# Altium schematic symbol library Standard Components.SCHLIB: 18 symbols
Pins are listed as number, name and electrical type; pins without a type are passive.

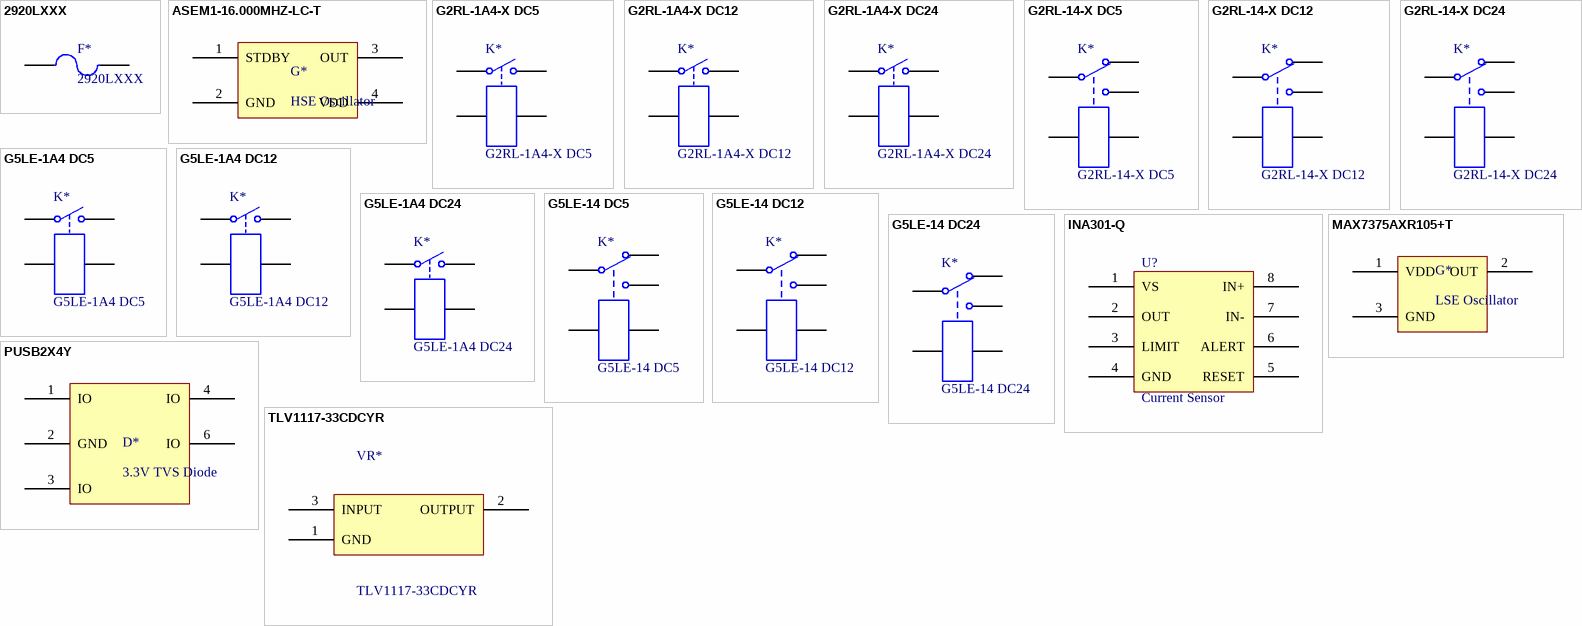
[diagram p0: symbols 2920LXXX to TLV1117-33CDCYR]

## 2920LXXX
designator F*
PTC Fuse
footprint PTC FUSE
pins: 1, 2

## ASEM1-16.000MHZ-LC-T
designator G*, comment HSE Oscillator
footprint HSE
pins: 1 STDBY, 2 GND, 3 OUT, 4 VDD

## G2RL-1A4-X DC5
designator K*
Single-Pole Single-Throw Relay - High Voltage; Published: 24-Mar-1999; LatestRevisionDate: 17-Jul-2002; LatestRevisionNote: Re-released for DXP Platform.; PackageReference: MODULE4; Publisher: Altium Limited
simulation model SPSTRELAY (Spice Subcircuit)
footprint HV-SPST
pins: 1, 3, 4, 5

## G2RL-1A4-X DC12
designator K*
Single-Pole Single-Throw Relay - High Voltage; Published: 24-Mar-1999; LatestRevisionDate: 17-Jul-2002; LatestRevisionNote: Re-released for DXP Platform.; PackageReference: MODULE4; Publisher: Altium Limited
simulation model SPSTRELAY (Spice Subcircuit)
footprint HV-SPST
pins: 1, 3, 4, 5

## G2RL-1A4-X DC24
designator K*
Single-Pole Single-Throw Relay - High Voltage; Published: 24-Mar-1999; LatestRevisionDate: 17-Jul-2002; LatestRevisionNote: Re-released for DXP Platform.; PackageReference: MODULE4; Publisher: Altium Limited
simulation model SPSTRELAY (Spice Subcircuit)
footprint HV-SPST
pins: 1, 3, 4, 5

## G2RL-14-X DC5
designator K*
Single-Pole Dual-Throw Relay - High Voltage; Published: 24-Mar-1999; LatestRevisionDate: 17-Jul-2002; LatestRevisionNote: Re-released for DXP Platform.; PackageReference: MODULE5B; Publisher: Altium Limited
simulation model SPDTRELAY (Spice Subcircuit)
footprint HV-SPDT
pins: 1, 2, 3, 4, 5

## G2RL-14-X DC12
designator K*
Single-Pole Dual-Throw Relay - High Voltage; Published: 24-Mar-1999; LatestRevisionDate: 17-Jul-2002; LatestRevisionNote: Re-released for DXP Platform.; PackageReference: MODULE5B; Publisher: Altium Limited
simulation model SPDTRELAY (Spice Subcircuit)
footprint HV-SPDT
pins: 1, 2, 3, 4, 5

## G2RL-14-X DC24
designator K*
Single-Pole Dual-Throw Relay - High Voltage; Published: 24-Mar-1999; LatestRevisionDate: 17-Jul-2002; LatestRevisionNote: Re-released for DXP Platform.; PackageReference: MODULE5B; Publisher: Altium Limited
simulation model SPDTRELAY (Spice Subcircuit)
footprint HV-SPDT
pins: 1, 2, 3, 4, 5

## G5LE-1A4 DC5
designator K*
Single-Pole Single-Throw Relay; Published: 24-Mar-1999; LatestRevisionDate: 17-Jul-2002; LatestRevisionNote: Re-released for DXP Platform.; PackageReference: MODULE4; Publisher: Altium Limited
simulation model SPSTRELAY (Spice Subcircuit)
footprint LV-SPST
pins: 1, 2, 3, 5

## G5LE-1A4 DC12
designator K*
Single-Pole Single-Throw Relay; Published: 24-Mar-1999; LatestRevisionDate: 17-Jul-2002; LatestRevisionNote: Re-released for DXP Platform.; PackageReference: MODULE4; Publisher: Altium Limited
simulation model SPSTRELAY (Spice Subcircuit)
footprint LV-SPST
pins: 1, 2, 3, 5

## G5LE-1A4 DC24
designator K*
Single-Pole Single-Throw Relay; Published: 24-Mar-1999; LatestRevisionDate: 17-Jul-2002; LatestRevisionNote: Re-released for DXP Platform.; PackageReference: MODULE4; Publisher: Altium Limited
simulation model SPSTRELAY (Spice Subcircuit)
footprint LV-SPST
pins: 1, 2, 3, 5

## G5LE-14 DC5
designator K*
Single-Pole Dual-Throw Relay; Published: 24-Mar-1999; LatestRevisionDate: 17-Jul-2002; LatestRevisionNote: Re-released for DXP Platform.; PackageReference: MODULE5B; Publisher: Altium Limited
simulation model SPDTRELAY (Spice Subcircuit)
footprint LV-SPDT
pins: 1, 2, 3, 4, 5

## G5LE-14 DC12
designator K*
Single-Pole Dual-Throw Relay; Published: 24-Mar-1999; LatestRevisionDate: 17-Jul-2002; LatestRevisionNote: Re-released for DXP Platform.; PackageReference: MODULE5B; Publisher: Altium Limited
simulation model SPDTRELAY (Spice Subcircuit)
footprint LV-SPDT
pins: 1, 2, 3, 4, 5

## G5LE-14 DC24
designator K*
Single-Pole Dual-Throw Relay; Published: 24-Mar-1999; LatestRevisionDate: 17-Jul-2002; LatestRevisionNote: Re-released for DXP Platform.; PackageReference: MODULE5B; Publisher: Altium Limited
simulation model SPDTRELAY (Spice Subcircuit)
footprint LV-SPDT
pins: 1, 2, 3, 4, 5

## INA301-Q
designator U?, comment Current Sensor
footprint VSSOP-8
pins: 1 VS, 2 OUT, 3 LIMIT, 4 GND, 5 RESET, 6 ALERT, 7 IN-, 8 IN+

## MAX7375AXR105+T
designator G*, comment LSE Oscillator
footprint SOT-323
pins: 1 VDD, 2 OUT, 3 GND

## PUSB2X4Y
designator D*, comment 3.3V TVS Diode
footprint SOT-363 (SOT23, 6-Leads, Body 2.00x2.10mm, Pitch 0.65mm, IPC Medium Density)
pins: 1 IO, 2 GND, 3 IO, 4 IO, 6 IO

## TLV1117-33CDCYR
designator VR*
5V-3.3V Regulator
footprint SOT-223-4 (SOT223, 4-Leads, Body 6.50x7.00mm (avg), Pitch 2.30mm, IPC Medium Density)
pins: 1 GND, 2 OUTPUT, 3 INPUT